# EAGLE library part AC_RELAY (library relay-Omron)
RELAY 2 x switch, Omron AC Relay Package Developed At : Smart Joules Pvt. Ltd. By Manash Jyoti Deka
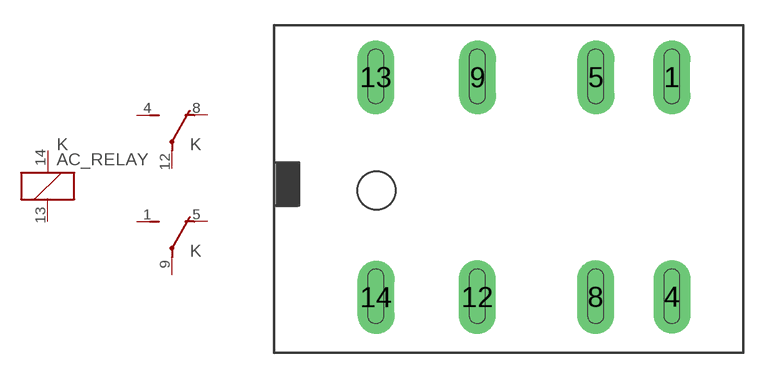
[diagram p0: symbol with the pads of 8PIN_OMRON; footprint 8PIN_OMRON]

Designator prefix K; gates 1=K 2=U 3=U

## AC_RELAY (OC_FARNELL: unknown; OC_NEWARK: unknown)  [8PIN_OMRON]
1  3:S  pas
4  2:S  pas
5  3:O  pas
8  2:O  pas
9  3:P  pas
12  2:P  pas
13  1:2  pas
14  1:1  pas

## Footprint 8PIN_OMRON (pad centres in mm)
RELAY 2 x AC Relay Package Developed At : Smart Joules Pvt. Ltd. By Manash Jyoti Deka
drill 0.9 pad 2.184 long: 1 12.47,4.69; 4 12.48,-8.3; 5 7.98,4.69; 8 7.97,-8.31; 9 0.98,4.68; 12 0.97,-8.32; 13 -5.03,4.69; 14 -5.02,-8.33